# EAGLE library part BAT54SDW (library SoftDust)
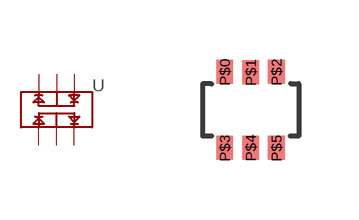
[diagram p3: symbol with the pads of SOT-363; footprint SOT-363]

Designator prefix -

## BAT54SDW  [SOT-363]
P$0  AC1
P$1  C2
P$2  A2
P$3  A1
P$4  C1
P$5  AC2

## Footprint SOT-363 (pad centres in mm)
smd 0.42 x 0.6: P$0 -0.65,0.949; P$1 0,0.943; P$2 0.643,0.949; P$3 -0.65,-0.949; P$4 0,-0.943; P$5 0.643,-0.949